# EAGLE library part 79107-46_S (library untitled)
RECEPTACAL
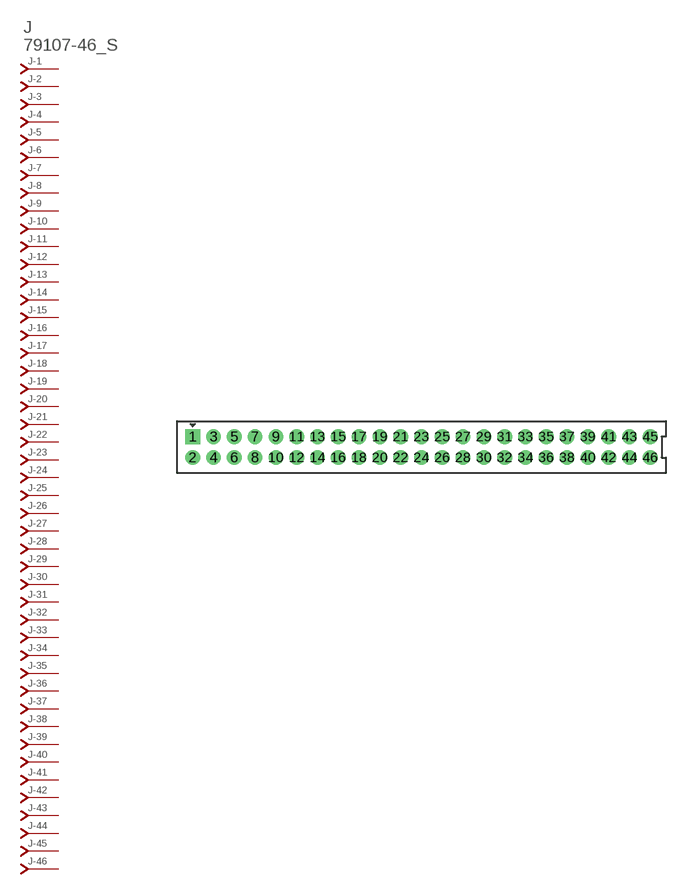
[diagram p238: symbol with the pads of 79107-46; footprint 79107-46]

Designator prefix J; gates -1=J-NV -2=J-N -3=J-N -4=J-N -5=J-N -6=J-N -7=J-N -8=J-N -9=J-N -10=J-N -11=J-N -12=J-N -13=J-N -14=J-N -15=J-N -16=J-N -17=J-N -18=J-N -19=J-N -20=J-N -21=J-N -22=J-N -23=J-N -24=J-N -25=J-N -26=J-N -27=J-N -28=J-N -29=J-N -30=J-N -31=J-N -32=J-N -33=J-N -34=J-N -35=J-N -36=J-N -37=J-N -38=J-N -39=J-N -40=J-N -41=J-N -42=J-N -43=J-N -44=J-N -45=J-N -46=J-N

## 79107-46_S  [79107-46]
1  -1:J  pas
2  -2:J  pas
3  -3:J  pas
4  -4:J  pas
5  -5:J  pas
6  -6:J  pas
7  -7:J  pas
8  -8:J  pas
9  -9:J  pas
10  -10:J  pas
11  -11:J  pas
12  -12:J  pas
13  -13:J  pas
14  -14:J  pas
15  -15:J  pas
16  -16:J  pas
17  -17:J  pas
18  -18:J  pas
19  -19:J  pas
20  -20:J  pas
21  -21:J  pas
22  -22:J  pas
23  -23:J  pas
24  -24:J  pas
25  -25:J  pas
26  -26:J  pas
27  -27:J  pas
28  -28:J  pas
29  -29:J  pas
30  -30:J  pas
31  -31:J  pas
32  -32:J  pas
33  -33:J  pas
34  -34:J  pas
35  -35:J  pas
36  -36:J  pas
37  -37:J  pas
38  -38:J  pas
39  -39:J  pas
40  -40:J  pas
41  -41:J  pas
42  -42:J  pas
43  -43:J  pas
44  -44:J  pas
45  -45:J  pas
46  -46:J  pas

## Footprint 79107-46 (pad centres in mm)
RECEPTACAL Dual Row, Vertical, Through-Hole
drill 0.914 square: 1 -22,1
drill 0.914 round: 2 -22,-1; 3 -20,1; 4 -20,-1; 5 -18,1; 6 -18,-1; 7 -16,1; 8 -16,-1; 9 -14,1; 10 -14,-1; 11 -12,1; 12 -12,-1; 13 -10,1; 14 -10,-1; 15 -8,1; 16 -8,-1; 17 -6,1; 18 -6,-1; 19 -4,1; 20 -4,-1; 21 -2,1; 22 -2,-1; 23 0,1; 24 0,-1; 25 2,1; 26 2,-1; 27 4,1; 28 4,-1; 29 6,1; 30 6,-1; 31 8,1; 32 8,-1; 33 10,1; 34 10,-1; 35 12,1; 36 12,-1; 37 14,1; 38 14,-1; 39 16,1; 40 16,-1; 41 18,1; 42 18,-1; 43 20,1; 44 20,-1; 45 22,1; 46 22,-1